# EAGLE library part ADG711BR (library AnalogSwitch_Mux)
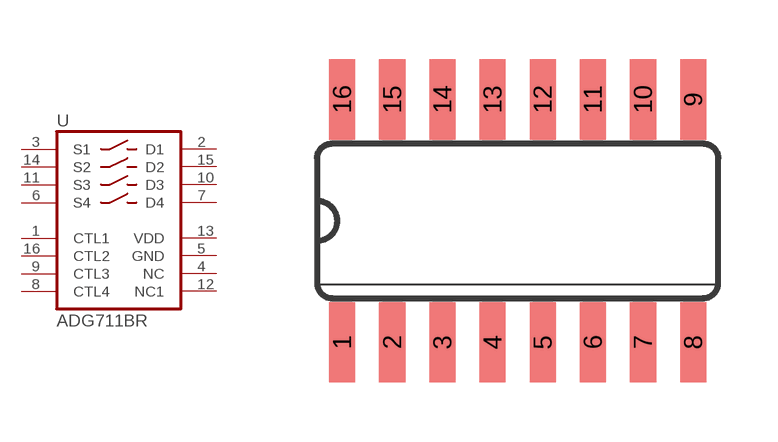
[diagram p0: symbol with the pads of 16SOIC; footprint 16SOIC]

Designator prefix -

## ADG711BR  [16SOIC]
1  CTL1  in
2  D1  pas
3  S1  pas
4  NC  pwr
5  GND  pwr
6  S4  pas
7  D4  pas
8  CTL4  in
9  CTL3  in
10  D3  pas
11  S3  pas
12  NC1  pwr
13  VDD  pwr
14  S2  pas
15  D2  pas
16  CTL2  in

## Footprint 16SOIC (pad centres in mm)
smd 0.66 x 2.032: 1 -1.905,4.547; 2 -0.635,4.547; 3 0.635,4.547; 4 1.905,4.547; 5 3.175,4.547; 6 4.445,4.547; 7 5.715,4.547; 8 6.985,4.547; 9 6.985,10.693; 10 5.715,10.693; 11 4.445,10.693; 12 3.175,10.693; 13 1.905,10.693; 14 0.635,10.693; 15 -0.635,10.693; 16 -1.905,10.693